# EAGLE library part ATSAMD11C14 (library SAMD11C_Mini_Breakout)
Atmel SAM D11 SMART ARM-Based Microcontroller The Atmel® | SMART™ SAM D11 is a series of low-power microcontrollers using the 32-bit ARM® Cortex®-M0+ processor, and ranging from 14- to 24-pins with 16KB Flash and 4KB of SRAM. The SAM D11 devices operate at a maximum frequency of 48MHz and reach 2.46 Coremark/MHz. They are designed for simple and intuitive migration with identical peripheral modules, hex compatible code, identical linear address map and pin compatible migration paths between all devices in the product series. All devices include intelligent and flexible peripherals, Atmel Event System for inter-peripheral signaling, and support for capacitive touch button, slider and wheel user interfaces. The SAM D11 series is compatible to the other product series in the SAM D family, enabling easy migration to larger device with added features.
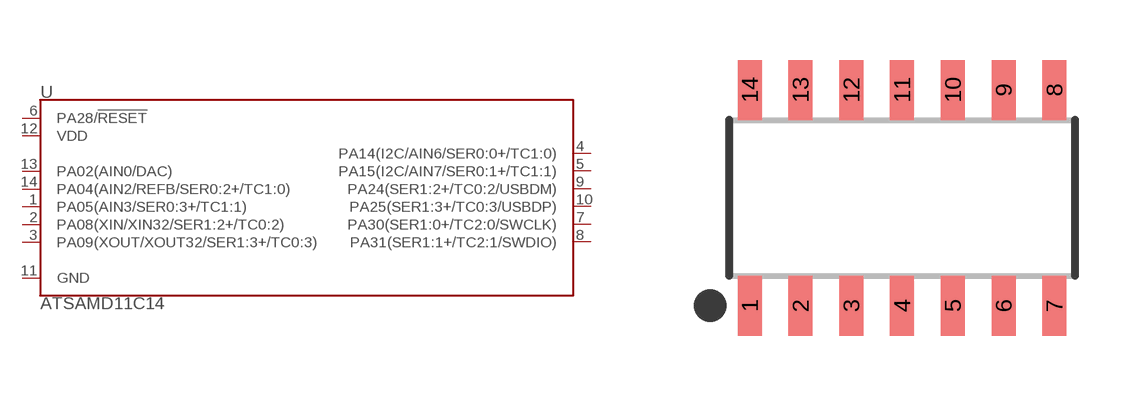
[diagram p0: symbol with the pads of SOIC-14; footprint SOIC-14]

Designator prefix U

## ATSAMD11C14  [SOIC-14]
1  PA05(AIN3/SER0:3+/TC1:1)
2  PA08(XIN/XIN32/SER1:2+/TC0:2)
3  PA09(XOUT/XOUT32/SER1:3+/TC0:3)
4  PA14(I2C/AIN6/SER0:0+/TC1:0)
5  PA15(I2C/AIN7/SER0:1+/TC1:1)
6  PA28/!RESET!
7  PA30(SER1:0+/TC2:0/SWCLK)
8  PA31(SER1:1+/TC2:1/SWDIO)
9  PA24(SER1:2+/TC0:2/USBDM)
10  PA25(SER1:3+/TC0:3/USBDP)
11  GND
12  VDD
13  PA02(AIN0/DAC)
14  PA04(AIN2/REFB/SER0:2+/TC1:0)

## Footprint SOIC-14 (pad centres in mm)
smd 0.6 x 1.5: 1 -3.81,-2.7; 2 -2.54,-2.7; 3 -1.27,-2.7; 4 0,-2.7; 5 1.27,-2.7; 6 2.54,-2.7; 7 3.81,-2.7; 8 3.81,2.7; 9 2.54,2.7; 10 1.27,2.7; 11 0,2.7; 12 -1.27,2.7; 13 -2.54,2.7; 14 -3.81,2.7